# Altium schematic symbol library Schlib.SchLib: 5 symbols
Pins are listed as number, name and electrical type; pins without a type are passive.

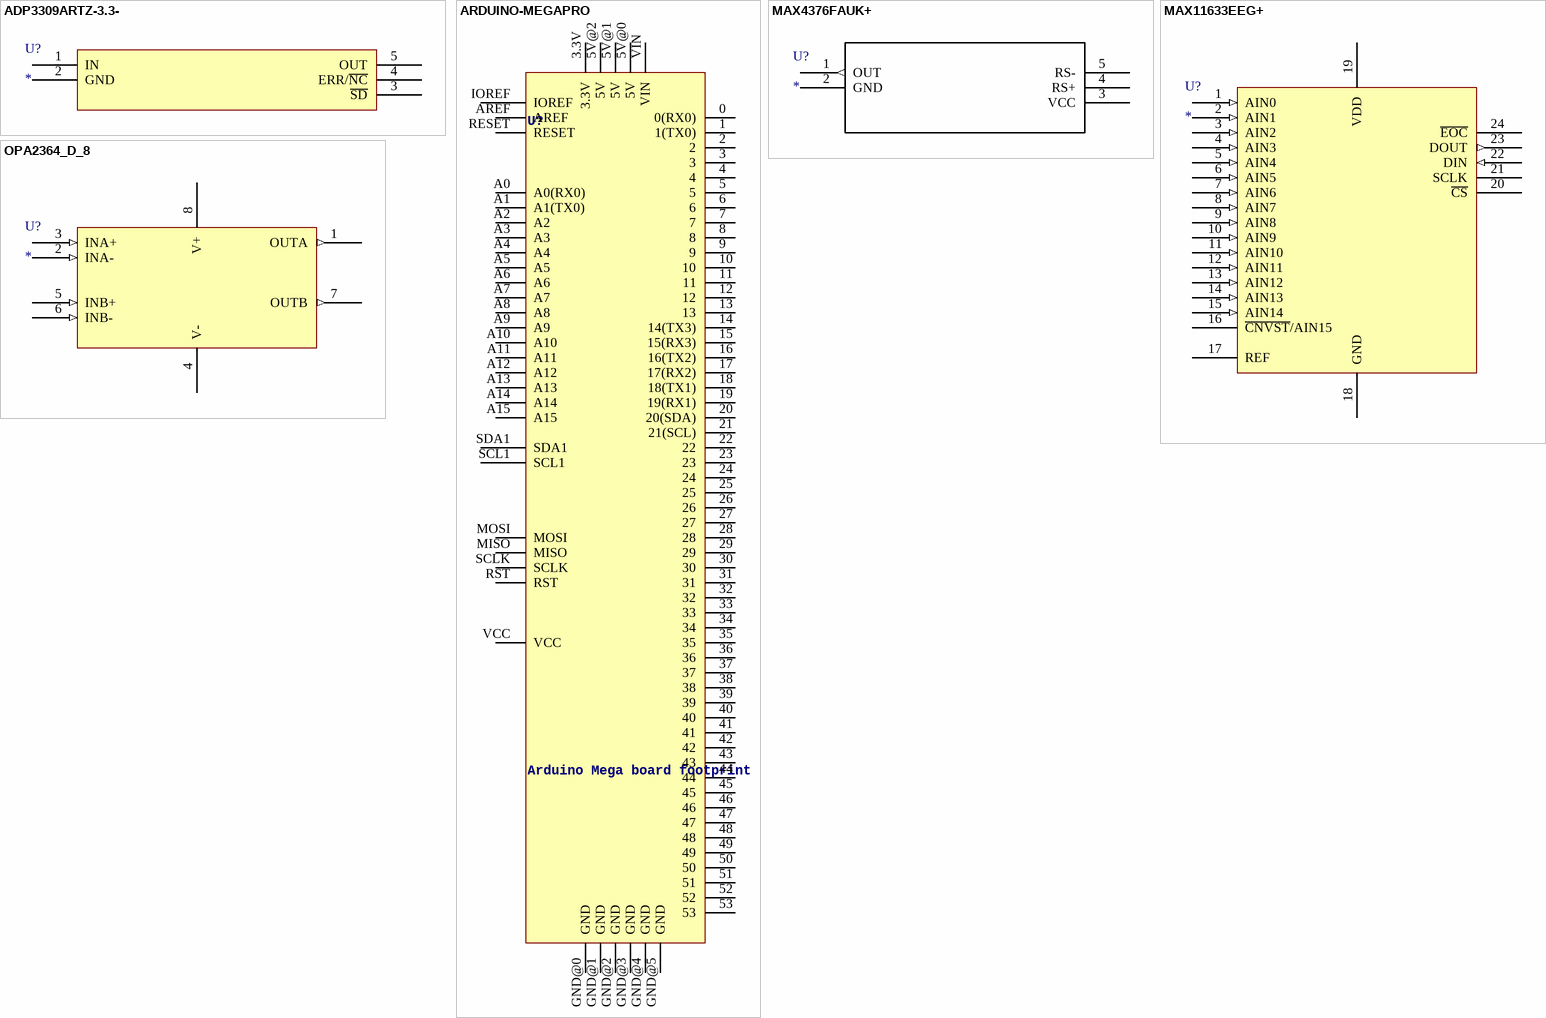
[diagram p0: symbols ADP3309ARTZ-3.3- to OPA2364_D_8]

## ADP3309ARTZ-3.3-
designator U?
Imported; Manufacturer_Part_Number: ADP3309ARTZ-3.3-R7; Vendor: Analog Devices Inc; Regulator Topology: Positive Fixed; Voltage - Output: 3.3V; Voltage - Input: Up to 12V; Voltage - Dropout (Typical): 0.12V @ 100mA; Number of Regulators: 1; Current - Output: 100mA; DigiKeyPartNumber: ADP3309ARTZ-3.3-R7TR-ND; Quantity_Available: 6000; DataSheet: http://www.analog.com/static/imported-files/data_sheets/ADP3309.pdf; Current - Limit (Min): -; Operating Temperature: -20Â°C ~ 85Â°C; Mounting Type: Surface Mount; Package / Case: SC-74A, SOT-753; Supplier Device Package: SOT-23-5; Packaging: Tape &amp; Reel (TR); RefDes: RefDes; Type: DEV; Value: Value
footprint RJ_5
footprint RJ_5-M
pins: 1 IN, 2 GND, 3 ~{SD}, 4 ERR/~{NC}, 5 OUT

## ARDUINO-MEGAPRO
designator U?, comment Arduino Mega board footprint
footprint ARDUINO_MEGA-PRO-3.3V
pins: 0 0(RX0), 1 1(TX0), 2, 3, 3.3V, 4, 5, 5V@0 5V, 5V@1 5V, 5V@2 5V, 6, 7, 8, 9, 10, 11, 12, 13, 14 14(TX3), 15 15(RX3), 16 16(TX2), 17 17(RX2), 18 18(TX1), 19 19(RX1), 20 20(SDA), 21 21(SCL), 22, 23, 24, 25, 26, 27, 28, 29, 30, 31, 32, 33, 34, 35, 36, 37, 38, 39, 40, 41, 42, 43, 44, 45, 46, 47, 48, 49, 50, 51, 52, 53, A0 A0(RX0), A1 A1(TX0), A2, A3, A4, A5, A6, A7, A8, A9, A10, A11, A12, A13, A14, A15, AREF, GND@0 GND, GND@1 GND, GND@2 GND, GND@3 GND, GND@4 GND, GND@5 GND, IOREF, MISO, MOSI, RESET, RST, SCL1, SCLK, SDA1, VCC, VIN

## MAX4376FAUK+
designator U?
Imported; Manufacturer_Part_Number: max4376fauk+; Vendor: MAXIM; RefDes: RefDes; Type: DEV; Value: Value
footprint 21-0057F
pins: 1 OUT (out), 2 GND (power), 3 VCC (power), 4 RS+, 5 RS-

## MAX11633EEG+
designator U?
Imported; Manufacturer_Part_Number: MAX11633EEG+; Vendor: MAXIM; Manufacturer_Name: Maxim; RefDes: RefDes; Type: DEV; Value: Value
footprint 21-0055H_24
pins: 1 AIN0 (in), 2 AIN1 (in), 3 AIN2 (in), 4 AIN3 (in), 5 AIN4 (in), 6 AIN5 (in), 7 AIN6 (in), 8 AIN7 (in), 9 AIN8 (in), 10 AIN9 (in), 11 AIN10 (in), 12 AIN11 (in), 13 AIN12 (in), 14 AIN13 (in), 15 AIN14 (in), 16 ~{CNVST}/AIN15, 17 REF, 18 GND (power), 19 VDD (power), 20 ~{CS}, 21 SCLK, 22 DIN (in), 23 DOUT (out), 24 ~{EOC}

## OPA2364_D_8
designator U?
Imported; Manufacturer: Texas Instruments; GENERIC_PART_NUMBER: OPA2364; Manufacturer_Part_Number: opa2364_d_8; INDUSTRY_STD_PKG_TYPE: SOIC; FAMILY_NAME: WIDE BANDWIDTH; PIN_COUNT: 8; PACKAGE_DESIGNATOR: D; Datasheet URL: http://www.ti.com/lit/gpn/OPA2364; Vendor: Texas Instruments; RefDes: RefDes; Type: DEV; Value: Value
footprint D8
pins: 1 OUTA (out), 2 INA- (in), 3 INA+ (in), 4 V- (power), 5 INB+ (in), 6 INB- (in), 7 OUTB (out), 8 V+ (power)